# EAGLE library part TPS61236P (library daqcs)
Boost Switching Regulator IC Positive Adjustable 2.9V 1 Output 6.5A (Switch) 9-WDFN Exposed Pad
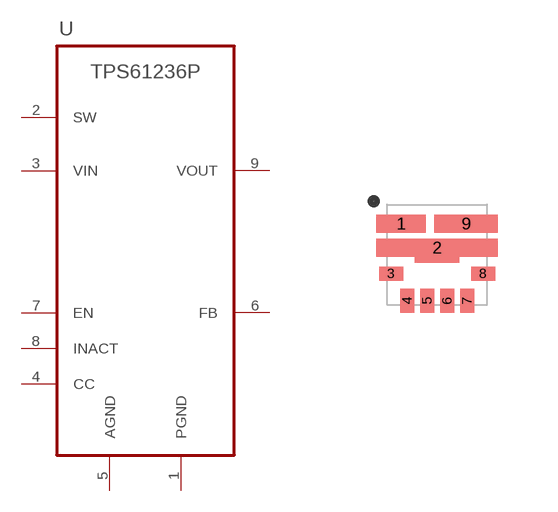
[diagram p22: symbol with the pads of RWL0009A; footprint RWL0009A]

Designator prefix U

## TPS61236P (MANUFACTURER: Texas Instruments; MANUFACTURER_PN: TPS61236PRWLT; VALUE: TPS61236P; VENDOR: Digi-key; VENDOR_PN: 296-44629-1-ND)  [RWL0009A]
1  PGND  pwr
2  SW
3  VIN  pwr
4  CC  in
5  AGND  pwr
6  FB  in
7  EN  in
8  INACT  oc
9  VOUT  pwr

## Footprint RWL0009A (pad centres in mm)
smd 1.24 x 0.44: 1 -0.9,0.77
smd 3.04 x 0.44: 2 0,0.17
smd 0.6 x 0.35: 3 -1.15,-0.475; 8 1.15,-0.475
smd 0.35 x 0.6: 4 -0.75,-1.15; 5 -0.25,-1.15; 6 0.25,-1.15; 7 0.75,-1.15
smd 1.59 x 0.44: 9 0.725,0.77